# Altium footprint library Maxim.PcbLib: 1 footprints
Each footprint in its own frame and in the unit in brackets; x right, y up, seen from the top. Pads: shape width x height; smd on the part's side, far side on the other; paste and mask are expansions set on the pad; w line width, h text height; cw(c..) or ccw(c..) is an arc to the next point about the centre after c.
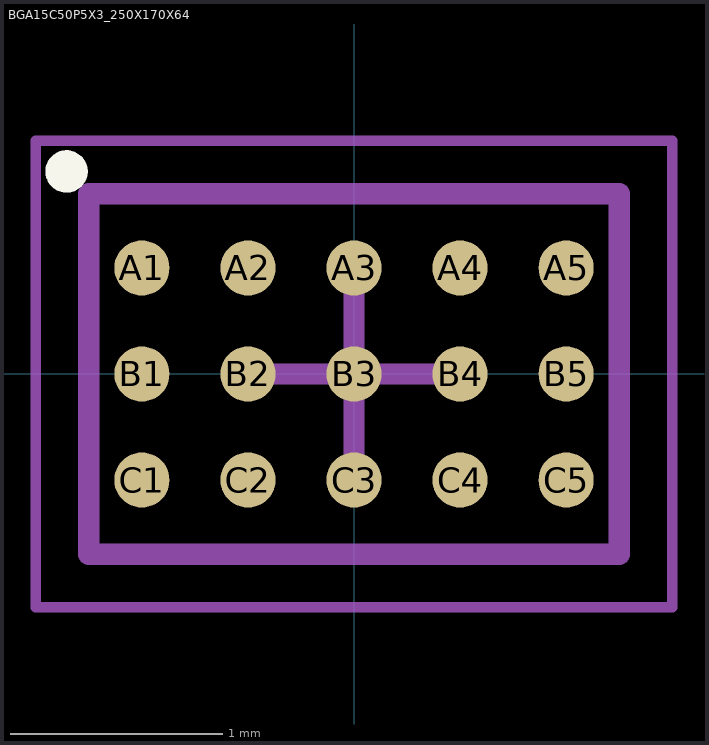
[diagram p0: the footprint, top view; thin cyan lines are the x and y axes]

## BGA15C50P5X3_250X170X64 [mm] "BGA, 15-Leads, Body 2.50x1.70mmx0.64mm, Pitch 0.50mm"
height 0.64
pads (15):
  round 0.26 smd: A1(-1,0.5) A2(-0.5,0.5) A3(0,0.5) A4(0.5,0.5) A5(1,0.5) B1(-1,0) B2(-0.5,0) B3(0,0) B4(0.5,0) B5(1,0) C1(-1,-0.5) C2(-0.5,-0.5) C3(0,-0.5) C4(0.5,-0.5) C5(1,-0.5)
Top Overlay:
  circle w0.1: c-1.355,0.955 r0.05
Mechanical 13:
  lines w0.1: -1.25,-0.85 1.25,-0.85 1.25,0.85 -1.25,0.85 -1.25,-0.85
Mechanical 15:
  lines w0.05: -1.5,-1.1 1.5,-1.1 1.5,1.1 -1.5,1.1 -1.5,-1.1
  lines w0.1: -0.5,0 0.5,0 ; 0,-0.5 0,0.5
3D body "BGA15C50P5X3_250X170X64.step": height 0.64, standoff 0, extent -1.25,-0.85 1.25,0.85